# EAGLE library part YH55-09 (library con-RJ-YH55)
RJ11-RJ12 Triple 6P6C Source: YH55-09.pdf At: http://www.czt.com.cn/upload/file/2011-03/YH-55-09%20%20%20E55QWY-1078-2-REV04%2855213B6P4C%29_recover.pdf
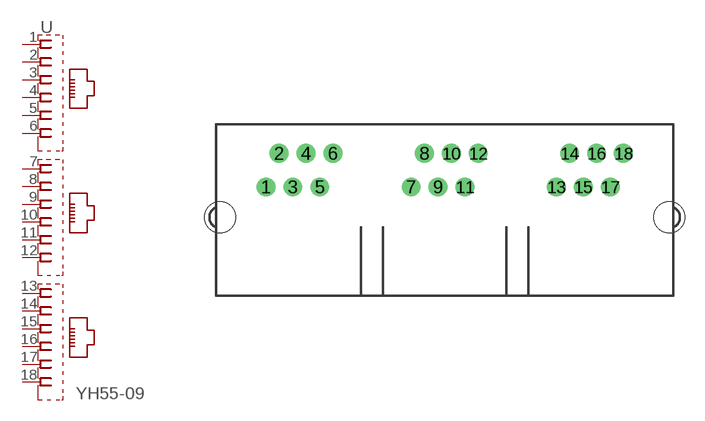
[diagram p2: symbol with the pads of YH55-09; footprint YH55-09]

Designator prefix -

## YH55-09  [YH55-09]
1  1  pas
2  2  pas
3  3  pas
4  4  pas
5  5  pas
6  6  pas
7  7  pas
8  8  pas
9  9  pas
10  10  pas
11  11  pas
12  12  pas
13  13  pas
14  14  pas
15  15  pas
16  16  pas
17  17  pas
18  18  pas

## Footprint YH55-09 (pad centres in mm)
drill 0.9 pad 1.422: 1 -13.462,2.3; 2 -12.462,4.84; 3 -11.422,2.3; 4 -10.422,4.84; 5 -9.382,2.3; 6 -8.382,4.84; 7 -2.462,2.3; 8 -1.462,4.84; 9 -0.422,2.3; 10 0.578,4.84; 11 1.618,2.3; 12 2.618,4.84; 13 8.538,2.3; 14 9.538,4.84; 15 10.578,2.3; 16 11.578,4.84; 17 12.618,2.3; 18 13.618,4.84
hole 2.36 at -16.922,0
hole 2.36 at 17.078,0